# EAGLE library part LT_RS485 (library 1)
60V Fault Protected RS485/RS422 Transceivers
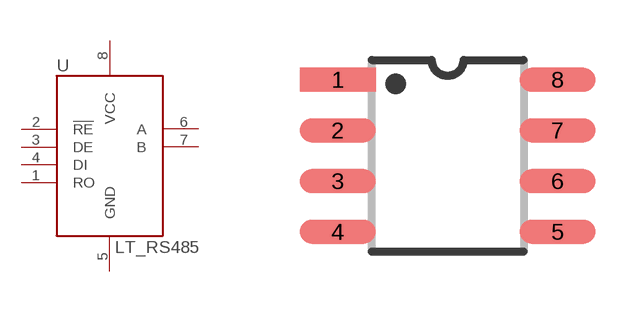
[diagram p2: symbol with the pads of SOIC-8; footprint SOIC-8]

Designator prefix U

## LT_RS485SOIC8  [SOIC-8]
1  RO  out
2  !RE  in
3  DE  in
4  DI  in
5  GND  pas
6  A  in
7  B  in
8  VCC  pwr

## Footprint SOIC-8 (pad centres in mm)
SOIC-8
smd 1.9 x 0.6: 1 -2.75,1.905; 2 -2.75,0.635; 3 -2.75,-0.635; 4 -2.75,-1.905; 5 2.75,-1.905; 6 2.75,-0.635; 7 2.75,0.635; 8 2.75,1.905